# EAGLE library part 87381-4063 (library SamacSys_Parts)
Headers & Wire Housings 2mm Mgrid Rec Top/E W/Cvr .76AuLF 40Ckt Source: Datasheet
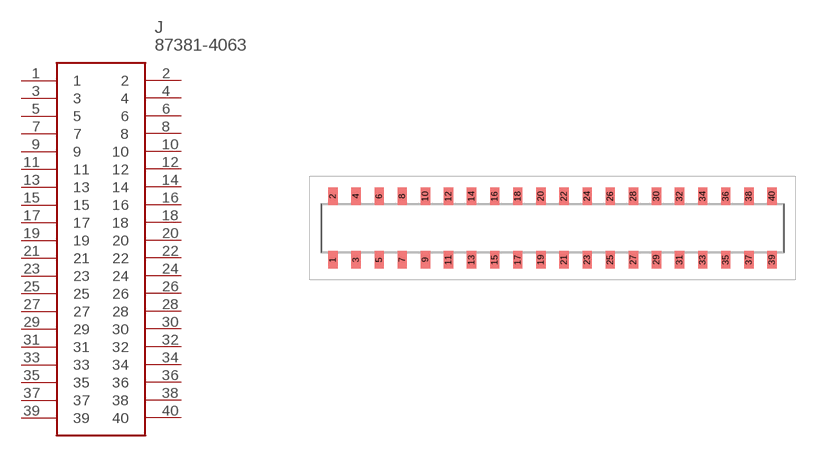
[diagram p177: symbol with the pads of 873814063; footprint 873814063]

Designator prefix J

## 87381-4063 (DESCRIPTION: Headers & Wire Housings 2mm Mgrid Rec Top/E W/Cvr .76AuLF 40Ckt; HEIGHT: 5.3mm; MANUFACTURER_NAME: Molex; MANUFACTURER_PART_NUMBER: 87381-4063; MOUSER_PART_NUMBER: 538-87381-4063; MOUSER_PRICE-STOCK: https://www.mouser.co.uk/ProductDetail/Molex/87381-4063?qs=%2FB1RQGSXGA%252BzEDtx9NjrOQ%3D%3D)  [873814063]
1  1
2  2
3  3
4  4
5  5
6  6
7  7
8  8
9  9
10  10
11  11
12  12
13  13
14  14
15  15
16  16
17  17
18  18
19  19
20  20
21  21
22  22
23  23
24  24
25  25
26  26
27  27
28  28
29  29
30  30
31  31
32  32
33  33
34  34
35  35
36  36
37  37
38  38
39  39
40  40

## Footprint 873814063 (pad centres in mm)
87381-4063-2
smd 0.8 x 1.5: 1 -19,-2.75; 2 -19,2.75; 3 -17,-2.75; 4 -17,2.75; 5 -15,-2.75; 6 -15,2.75; 7 -13,-2.75; 8 -13,2.75; 9 -11,-2.75; 10 -11,2.75; 11 -9,-2.75; 12 -9,2.75; 13 -7,-2.75; 14 -7,2.75; 15 -5,-2.75; 16 -5,2.75; 17 -3,-2.75; 18 -3,2.75; 19 -1,-2.75; 20 -1,2.75; 21 1,-2.75; 22 1,2.75; 23 3,-2.75; 24 3,2.75; 25 5,-2.75; 26 5,2.75; 27 7,-2.75; 28 7,2.75; 29 9,-2.75; 30 9,2.75; 31 11,-2.75; 32 11,2.75; 33 13,-2.75; 34 13,2.75; 35 15,-2.75; 36 15,2.75; 37 17,-2.75; 38 17,2.75; 39 19,-2.75; 40 19,2.75